# Altium footprint library x-TECO_FSMSM.PcbLib: 1 footprints
Each footprint in its own frame and in the unit in brackets; x right, y up, seen from the top. Pads: shape width x height; smd on the part's side, far side on the other; paste and mask are expansions set on the pad; w line width, h text height; cw(c..) or ccw(c..) is an arc to the next point about the centre after c.
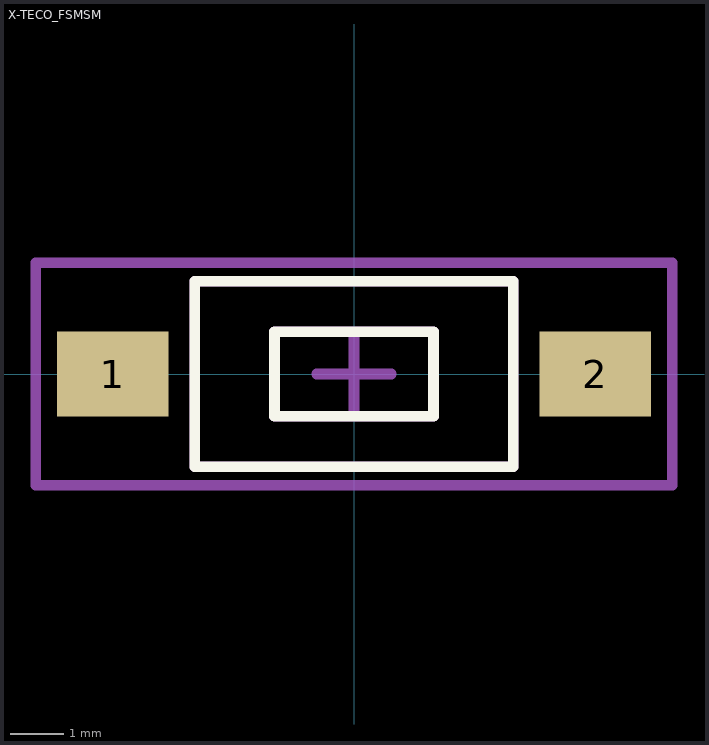
[diagram p0: the footprint, top view; thin cyan lines are the x and y axes]

## X-TECO_FSMSM [mm]
pads (2):
  rect 2.1x1.6 smd: 1(-4.55,0) 2(4.55,0)
Top Overlay:
  lines w0.2: -3,-1.75 -3,1.75 3,1.75 3,-1.75 -3,-1.75 ; -1.5,-0.8 -1.5,0.8 1.5,0.8 1.5,-0.8 -1.5,-0.8
Mechanical 13:
  lines w0.2: -3,-1.75 3,-1.75 3,1.75 -3,1.75 -3,-1.75 ; -1.5,-0.8 1.5,-0.8 1.5,0.8 -1.5,0.8 -1.5,-0.8
Mechanical 15:
  lines w0.2: -0.7,0 0.7,0 ; 0,-0.7 0,0.7 ; -6,-2.1 -6,2.1 6,2.1 6,-2.1 -6,-2.1
3D body: height 4.4, standoff -0.02, extent -4.985,-1.778 4.984,1.722